# EAGLE library part PCA9633 (library nxp)
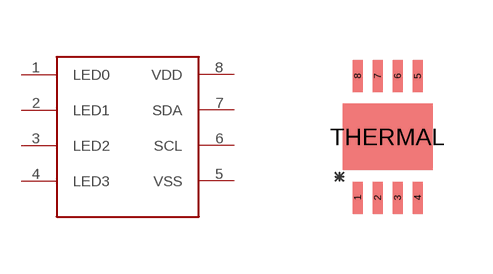
[diagram p0: symbol with the pads of HVSON8; footprint HVSON8]

Designator prefix -

## PCA9633  [HVSON8]
1  LED0
2  LED1
3  LED2
4  LED3
5  VSS
6  SCL
7  SDA
8  VDD

## Footprint HVSON8 (pad centres in mm)
smd 0.25 x 0.8: 1 -0.75,-1.525; 2 -0.25,-1.525; 3 0.25,-1.525; 4 0.75,-1.525; 5 0.75,1.525; 6 0.25,1.525; 7 -0.25,1.525; 8 -0.75,1.525
smd 2.25 x 1.65: THERMAL 0,0